# EAGLE library part BLUEPILL_STM32F103C8 (library BluePill_STM32F103)
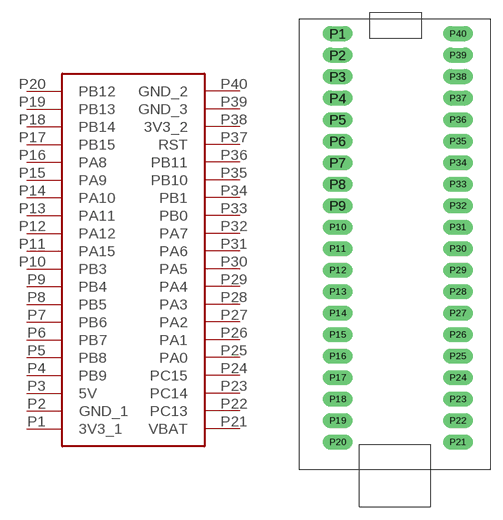
[diagram p0: symbol with the pads of BLUEPILL_STM32F103C8; footprint BLUEPILL_STM32F103C8]

Designator prefix -

## BLUEPILL_STM32F103C8  [BLUEPILL_STM32F103C8]
P1  3V3_1  pwr
P2  GND_1  pwr
P3  5V  pwr
P4  PB9
P5  PB8
P6  PB7
P7  PB6
P8  PB5
P9  PB4
P10  PB3
P11  PA15
P12  PA12
P13  PA11
P14  PA10
P15  PA9
P16  PA8
P17  PB15
P18  PB14
P19  PB13
P20  PB12
P21  VBAT  pwr
P22  PC13
P23  PC14
P24  PC15
P25  PA0
P26  PA1
P27  PA2
P28  PA3
P29  PA4
P30  PA5
P31  PA6
P32  PA7
P33  PB0
P34  PB1
P35  PB10
P36  PB11
P37  RST
P38  3V3_2  pwr
P39  GND_3  pwr
P40  GND_2  pwr

## Footprint BLUEPILL_STM32F103C8 (pad centres in mm)
drill 0.6 pad 1.778 long: P1 -6.35,20.32; P2 -6.35,17.78; P3 -6.35,15.24; P4 -6.35,12.7; P5 -6.35,10.16; P6 -6.35,7.62; P7 -6.35,5.08; P8 -6.35,2.54; P9 -6.35,0; P10 -6.35,-2.54; P11 -6.35,-5.08; P12 -6.35,-7.62; P13 -6.35,-10.16; P14 -6.35,-12.7; P15 -6.35,-15.24; P16 -6.35,-17.78; P17 -6.35,-20.32; P18 -6.35,-22.86; P19 -6.35,-25.4; P20 -6.35,-27.94; P21 7.849,-27.94; P22 7.849,-25.4; P23 7.849,-22.86; P24 7.849,-20.32; P25 7.849,-17.78; P26 7.849,-15.24; P27 7.849,-12.7; P28 7.849,-10.16; P29 7.849,-7.62; P30 7.849,-5.08; P31 7.849,-2.54; P32 7.849,0; P33 7.849,2.54; P34 7.849,5.08; P35 7.849,7.62; P36 7.849,10.16; P37 7.849,12.7; P38 7.849,15.24; P39 7.849,17.78; P40 7.849,20.32